# Altium footprint library MOLEX_0039281043.PcbLib: 1 footprints
Each footprint in its own frame and in the unit in brackets; x right, y up, seen from the top. Pads: shape width x height; smd on the part's side, far side on the other; paste and mask are expansions set on the pad; w line width, h text height; cw(c..) or ccw(c..) is an arc to the next point about the centre after c.
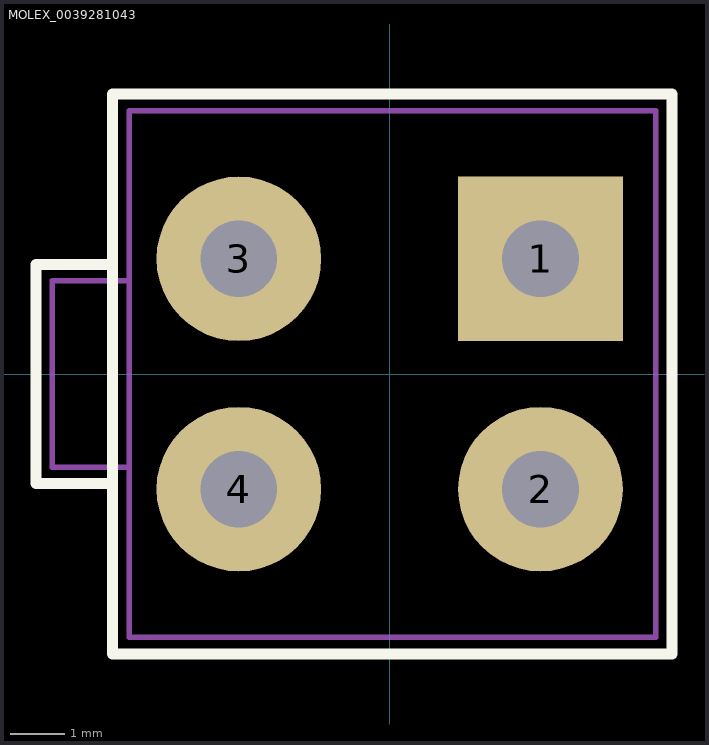
[diagram p0: the footprint, top view; thin cyan lines are the x and y axes]

## MOLEX_0039281043 [mm]
pads (4):
  rect 3x3 / inner round 1.524 / far side round 1.524 hole 1.4: 1(2.75,2.1)
  round 3 / inner round 1.524 / far side round 1.524 hole 1.4: 2(2.75,-2.1) 3(-2.75,2.1) 4(-2.75,-2.1)
Top Overlay:
  lines w0.2: -5.05,2 -6.45,2 -6.45,-2 -5.05,-2 ; -5.05,-2 -5.05,-5.1 5.15,-5.1 5.15,5.1 -5.05,5.1 -5.05,-2
Mechanical 13:
  lines w0.1: -4.75,-1.7 -6.15,-1.7 -6.15,1.7 -4.75,1.7 ; -4.75,-4.8 -4.75,4.8 4.85,4.8 4.85,-4.8 -4.75,-4.8
3D body: height 12.8, standoff -3.5, extent -6,-5.2 5,5.2